# Altium schematic symbol library LPJ0049CNL.SchLib: 1 symbol
Pins are listed as number, name and electrical type; pins without a type are passive.

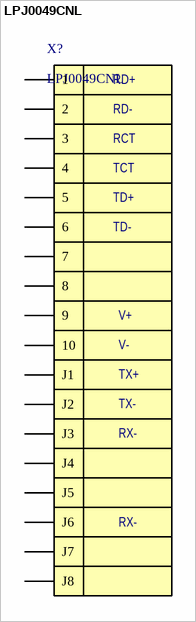
[diagram p0: symbol LPJ0049CNL]

## LPJ0049CNL
designator X?
pins: 1, 2, 2 J2, 3, 4, 5, 6, 7, 8, 9, 10, J1, J3, J4, J5, J6, J7, J8
text: RD+; RD-; RCT; TCT; TD+; TD-; V+; V-; TX+; TX-; RX-